# EAGLE library part FRONTPANEL-* (library jt-pc)
Front panel connector
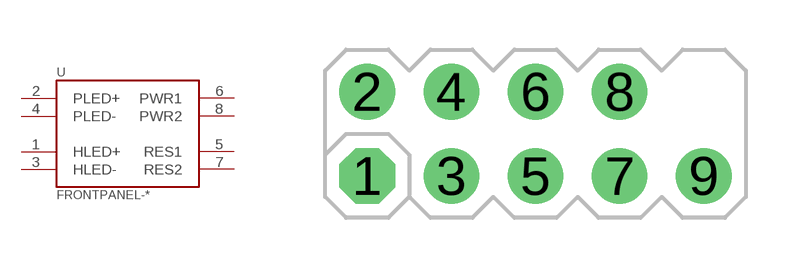
[diagram p3: symbol with the pads of D945GCLF2-FP; footprint D945GCLF2-FP]

Designator prefix -

## FRONTPANEL-D945GCLF2  [D945GCLF2-FP]
1  HLED+
2  PLED+
3  HLED-
4  PLED-
5  RES1
6  PWR1
7  RES2
8  PWR2

## Footprint D945GCLF2-FP (pad centres in mm)
Intel D945GCLF2 front panel connector
drill 1 pad 1.676 octagon: 1 0,0
drill 1 pad 1.676 round: 2 0,2.54; 3 2.54,0; 4 2.54,2.54; 5 5.08,0; 6 5.08,2.54; 7 7.62,0; 8 7.62,2.54; 9 10.16,0